# Altium footprint library ADCSFootprints.PcbLib: 63 footprints (part 1 of 4)
Each footprint in its own frame and in the unit in brackets; x right, y up, seen from the top. Pads: shape width x height; smd on the part's side, far side on the other; paste and mask are expansions set on the pad; w line width, h text height; cw(c..) or ccw(c..) is an arc to the next point about the centre after c.
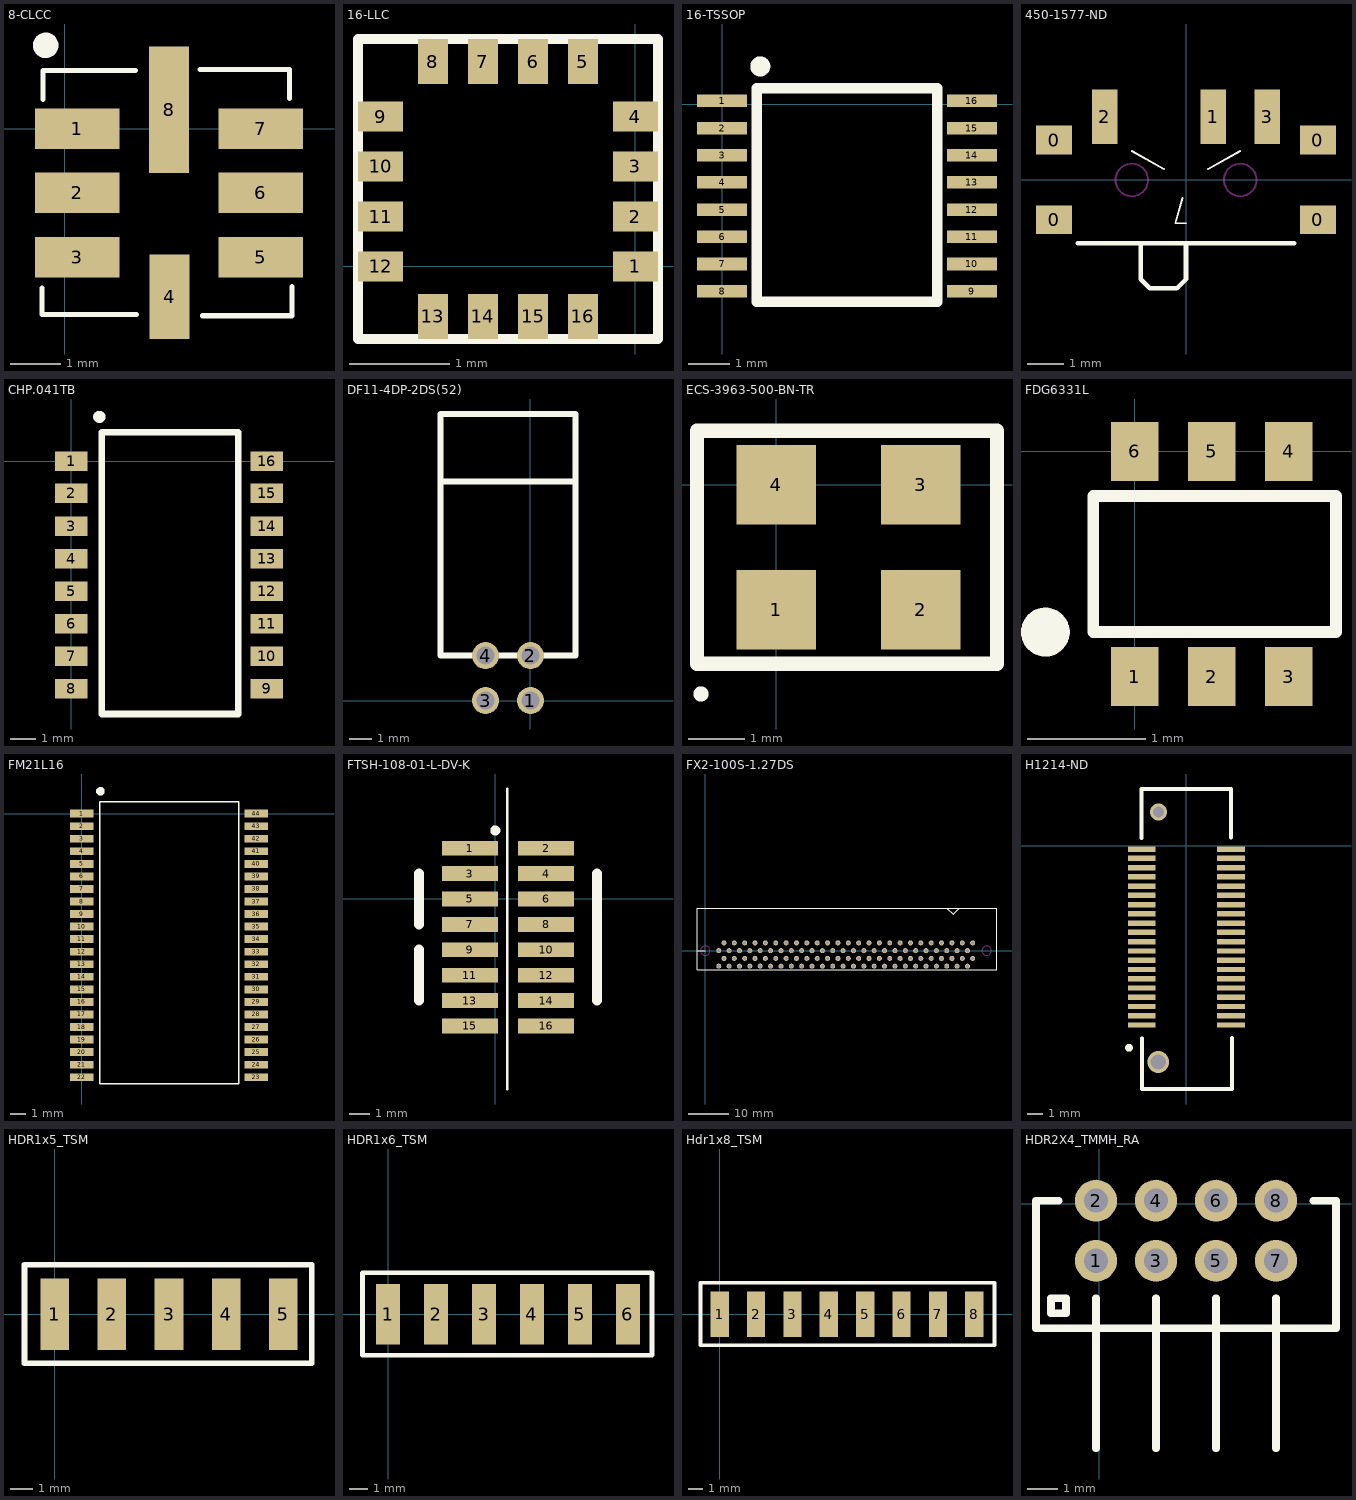
[diagram p0: the footprints below, top view; thin cyan lines are the x and y axes]

## 8-CLCC [mm]
pads (8):
  rrect0% 1.67x0.8 smd: 1(0.25,0) 2(0.25,-1.27) 3(0.25,-2.54) 5(3.88,-2.54) 6(3.88,-1.27) 7(3.88,0)
  rrect0% 0.8x1.67 smd: 4(2.075,-3.325)
  rrect0% 0.8x2.5 smd: 8(2.065,0.375)
Top Overlay:
  circle w0.254: c-0.375,1.65 r0.125
  lines w0.1: -0.45,-3.15 -0.45,-3.675 1.425,-3.675 ; -0.425,0.575 -0.425,1.15 1.4,1.15 ; 2.675,1.175 4.45,1.175 4.45,0.6 ; 2.725,-3.7 4.5,-3.7 4.5,-3.125

## 16-LLC [mm] "16-pin leadless chip carrier"
height 1.35
pads (16):
  rect 0.45x0.3 smd: 1(0,0) 2(0,0.5) 3(0,1) 4(0,1.5) 9(-2.55,1.5) 10(-2.55,1) 11(-2.55,0.5) 12(-2.55,0)
  rect 0.3x0.45 smd: 5(-0.525,2.05) 6(-1.025,2.05) 7(-1.525,2.05) 8(-2.025,2.05) 13(-2.025,-0.5) 14(-1.525,-0.5) 15(-1.025,-0.5) 16(-0.525,-0.5)
Top Overlay:
  lines w0.1: -2.775,-0.725 0.225,-0.725 0.225,2.275 -2.775,2.275 -2.775,-0.725
  text "." at -0.075,-0.425 h0.76

## 16-TSSOP [mm]
pads (16):
  rrect0% 1.2x0.3 smd: 1(0,0.075) 2(0,-0.575) 3(0,-1.225) 4(0,-1.875) 5(0,-2.525) 6(0,-3.175) 7(0,-3.825) 8(0,-4.475) 9(5.975,-4.475) 10(5.975,-3.825) 11(5.975,-3.175) 12(5.975,-2.525) 13(5.975,-1.875) 14(5.975,-1.225) 15(5.975,-0.575) 16(5.975,0.075)
Top Overlay:
  circle w0.254: c0.913,0.9 r0.112
  lines w0.254: 0.825,-4.725 0.825,0.38 5.15,0.38 5.15,-4.725 0.825,-4.725

## 450-1577-ND [mm] "SPDT Slide Switch"
height 1.4
pads (7):
  rect 1x0.8 smd: 0(-3.65,-1.1) 0(-3.65,1.1) 0(3.65,-1.1) 0(3.65,1.1)
  rect 0.7x1.5 smd: 1(0.75,1.75) 2(-2.25,1.75) 3(2.25,1.75)
Top Overlay:
  lines w0.05: -1.5,0.8 -0.6,0.3 ; -0.1,-0.5 -0.3,-1.2 0,-1.2 ; 0.6,0.3 1.5,0.8
  lines w0.125: -3,-1.75 3,-1.75 ; -1.25,-1.75 -1.25,-2.75 -1,-3 -0.25,-3 0,-2.75 0,-1.75
Keep-Out Layer:
  circle w0.05: c-1.5,0 r0.45
  circle w0.05: c1.5,0 r0.45

## CHP.041TB [mm]
pads (16):
  rrect0% 1.27x0.76 smd: 1(0,0) 2(0,-1.25) 3(0,-2.54) 4(0,-3.81) 5(0,-5.08) 6(0,-6.35) 7(0,-7.62) 8(0,-8.89) 9(7.62,-8.89) 10(7.62,-7.62) 11(7.62,-6.35) 12(7.62,-5.08) 13(7.62,-3.81) 14(7.62,-2.54) 15(7.62,-1.25) 16(7.62,0)
Top Overlay:
  circle w0.254: c1.088,1.74 r0.112
  lines w0.254: 1.175,-9.87 6.52,-9.87 6.52,1.13 1.175,1.13 1.175,-9.87

## DF11-4DP-2DS(52) [mm]
pads (4):
  round 1.2 hole 0.8: 1(0,0) 2(0,2) 3(-2,0) 4(-2,2)
Top Overlay:
  lines w0.254: -4,9.75 -4,2 2,2 2,9.75 ; -4,9.75 2,9.75 ; -4,9.75 -4,12.75 2,12.75 2,9.75
3D body: height 5.16, standoff -2.84, extent -4,-0.25 2,9.75

## ECS-3963-500-BN-TR [mm] "Crystal Oscillator"
height 1.3
pads (4):
  rect 1.4x1.4 smd: 1(0,-2.2) 2(2.54,-2.2) 3(2.54,0) 4(0,0)
Top Overlay:
  circle w0.152: c-1.327,-3.683 r0.057
  lines w0.254: -1.397,-3.15 -1.397,0.95 3.886,0.95 3.886,-3.15 -1.397,-3.15

## FDG6331L [mm]
pads (6):
  rrect0% 0.4x0.5 smd: 1(0,-1.9) 2(0.65,-1.9) 3(1.3,-1.9) 4(1.3,0) 5(0.65,0) 6(0,0)
Top Overlay:
  circle w0.254: c-0.754,-1.525 r0.079
  lines w0.1: -0.35,-1.525 -0.35,-0.375 1.7,-0.375 1.7,-1.525 -0.35,-1.525

## FM21L16 [mm]
pads (44):
  rrect0% 1.5x0.5 smd: 1(0,0) 2(0,-0.8) 3(0,-1.6) 4(0,-2.4) 5(0,-3.2) 6(0,-4) 7(0,-4.8) 8(0,-5.6) 9(0,-6.4) 10(0,-7.2) 11(0,-8) 12(0,-8.8) 13(0,-9.6) 14(0,-10.4) 15(0,-11.2) 16(0,-12) 17(0,-12.8) 18(0,-13.6) 19(0,-14.4) 20(0,-15.2) 21(0,-16) 22(0,-16.8) 23(11.1,-16.8) 24(11.1,-16) 25(11.1,-15.2) 26(11.1,-14.4) 27(11.1,-13.6) 28(11.1,-12.8) 29(11.1,-12) 30(11.1,-11.2) 31(11.1,-10.4) 32(11.1,-9.6) 33(11.1,-8.8) 34(11.1,-8) 35(11.1,-7.2) 36(11.1,-6.4) 37(11.1,-5.6) 38(11.1,-4.8) 39(11.1,-4) 40(11.1,-3.2) 41(11.1,-2.4) 42(11.1,-1.6) 43(11.1,-0.8) 44(11.1,0)
Top Overlay:
  circle w0.254: c1.179,1.425 r0.146
  lines w0.1: 10,0.725 10,-17.225 1.125,-17.225 1.125,0.75 10,0.75

## FTSH-108-01-L-DV-K [mm] "8X2 50 mil pitch SMT header"
pads (16):
  rect 2.8x0.74 smd: 1(-1.27,2.54) 2(2.54,2.54) 3(-1.27,1.27) 4(2.54,1.27) 5(-1.27,0) 6(2.54,0) 7(-1.27,-1.27) 8(2.54,-1.27) 9(-1.27,-2.54) 10(2.54,-2.54) 11(-1.27,-3.81) 12(2.54,-3.81) 13(-1.27,-5.08) 14(2.54,-5.08) 15(-1.27,-6.35) 16(2.54,-6.35)
Top Overlay:
  circle w0.25: c0,3.427 r0.125
  lines w0.125: 0.6,-9.5 0.6,-2 0.6,5.5
  lines w0.508: -3.81,-5.08 -3.81,-2.54 ; -3.81,-1.27 -3.81,1.27 ; 5.08,-5.08 5.08,1.27

## FX2-100S-1.27DS [mm] "11-pin s3sb expansion connecter"
height 7.5
pads (100):
  round 1.22 hole 0.8: A1(65.532,-1.905) A2(64.262,-3.81) A3(62.992,-1.905) A4(61.722,-3.81) A5(60.452,-1.905) A6(59.182,-3.81) A7(57.912,-1.905) A8(56.642,-3.81) A9(55.372,-1.905) A10(54.102,-3.81) A11(52.832,-1.905) A12(51.562,-3.81) A13(50.292,-1.905) A14(49.022,-3.81) A15(47.752,-1.905) A16(46.482,-3.81) A17(45.212,-1.905) A18(43.942,-3.81) A19(42.672,-1.905) A20(41.402,-3.81) A21(40.132,-1.905) A22(38.862,-3.81) A23(37.592,-1.905) A24(36.322,-3.81) A25(35.052,-1.905) A26(33.782,-3.81) A27(32.512,-1.905) A28(31.242,-3.81) A29(29.972,-1.905) A30(28.702,-3.81) A31(27.432,-1.905) A32(26.162,-3.81) A33(24.892,-1.905) A34(23.622,-3.81) A35(22.352,-1.905) A36(21.082,-3.81) A37(19.812,-1.905) A38(18.542,-3.81) A39(17.272,-1.905) A40(16.002,-3.81) A41(14.732,-1.905) A42(13.462,-3.81) A43(12.192,-1.905) A44(10.922,-3.81) A45(9.652,-1.905) A46(8.382,-3.81) A47(7.112,-1.905) A48(5.842,-3.81) A49(4.572,-1.905) A50(3.302,-3.81) B1(65.532,1.905) B2(64.262,0) B3(62.992,1.905) B4(61.722,0) B5(60.452,1.905) B6(59.182,0) B7(57.912,1.905) B8(56.642,0) B9(55.372,1.905) B10(54.102,0) B11(52.832,1.905) B12(51.562,0) B13(50.292,1.905) B14(49.022,0) B15(47.752,1.905) B16(46.482,0) B17(45.212,1.905) B18(43.942,0) B19(42.672,1.905) B20(41.402,0) B21(40.132,1.905) B22(38.862,0) B23(37.592,1.905) B24(36.322,0) B25(35.052,1.905) B26(33.782,0) B27(32.512,1.905) B28(31.242,0) B29(29.972,1.905) B30(28.702,0) B31(27.432,1.905) B32(26.162,0) B33(24.892,1.905) B34(23.622,0) B35(22.352,1.905) B36(21.082,0) B37(19.812,1.905) B38(18.542,0) B39(17.272,1.905) B40(16.002,0) B41(14.732,1.905) B42(13.462,0) B43(12.192,1.905) B44(10.922,0) B45(9.652,1.905) B46(8.382,0) B47(7.112,1.905) B48(5.842,0) B49(4.572,1.905) B50(3.302,0)
Top Overlay:
  lines w0.127: -2.032,0 0,0 ; 59.213,10.414 60.737,8.89 62.261,10.414 ; -2.032,-4.699 -2.032,10.414 3.302,10.414 71.501,10.414 71.501,-4.699 -2.032,-4.699
Keep-Out Layer:
  circle w0.127: c0,0 r1.15
  circle w0.127: c68.954,0 r1.15
3D body: height 5.6, standoff 0, extent -2.032,-4.699 71.501,2.794
3D body: height 7.5, standoff 0, extent -2.032,2.794 71.501,10.414

## H1214-ND [mm] "CONN RECEPT 40POS .6MM GOLD SMD"
height 2.26
pads (40):
  rect 1.8x0.35 smd: 1(-2.903,-11.625) 2(2.897,-11.625) 3(-2.903,-11.025) 4(2.897,-11.025) 5(-2.903,-10.425) 6(2.897,-10.425) 7(-2.903,-9.825) 8(2.897,-9.825) 9(-2.903,-9.225) 10(2.897,-9.225) 11(-2.903,-8.625) 12(2.897,-8.625) 13(-2.903,-8.025) 14(2.897,-8.025) 15(-2.903,-7.425) 16(2.897,-7.425) 17(-2.903,-6.825) 18(2.897,-6.825) 19(-2.903,-6.225) 20(2.897,-6.225) 21(-2.902,-5.625) 22(2.897,-5.625) 23(-2.902,-5.025) 24(2.897,-5.025) 25(-2.902,-4.425) 26(2.897,-4.425) 27(-2.902,-3.825) 28(2.897,-3.825) 29(-2.902,-3.225) 30(2.897,-3.225) 31(-2.902,-2.625) 32(2.897,-2.625) 33(-2.902,-2.025) 34(2.897,-2.025) 35(-2.902,-1.425) 36(2.897,-1.425) 37(-2.902,-0.825) 38(2.897,-0.825) 39(-2.902,-0.225) 40(2.897,-0.225)
via -1.813,-14.025 diameter 1.4 hole 1
via -1.802,2.175 diameter 1.1 hole 0.7
Top Overlay:
  circle w0.25: c-3.725,-13.1 r0.125
  lines w0.254: -2.9,0.5 -2.9,3.675 2.9,3.675 2.9,0.525 ; -2.875,-12.5 -2.875,-15.775 2.95,-15.775 2.95,-12.45
3D body: height 3.81, standoff 0, extent -2.886,-15.8 2.956,3.775

## HDR1x5_TSM [mm] "1x5 surface mount header, 100 mil pitch"
pads (5):
  rect 1.27x3.18 smd: 1(0,0) 2(2.54,0) 3(5.08,0) 4(7.62,0) 5(10.16,0)
Top Overlay:
  lines w0.254: -1.35,-2.175 11.43,-2.175 11.43,2.2 -1.35,2.2 -1.35,-2.175

## HDR1x6_TSM [mm] "1x6 surface mount header, 100 mil pitch"
pads (6):
  rect 1.27x3.18 smd: 1(0,0) 2(2.54,0) 3(5.08,0) 4(7.62,0) 5(10.16,0) 6(12.7,0)
Top Overlay:
  lines w0.254: -1.35,-2.175 -1.35,2.2 13.97,2.2 13.97,-2.175 -1.35,-2.175

## Hdr1x8_TSM [mm]
pads (8):
  rect 1.27x3.18 smd: 1(0,0) 2(2.54,0) 3(5.08,0) 4(7.62,0) 5(10.16,0) 6(12.7,0) 7(15.24,0) 8(17.78,0)
Top Overlay:
  lines w0.254: -1.375,-2.175 19.15,-2.175 ; -1.35,-2.125 -1.35,2.2 19.2,2.2 19.2,-2.15

## HDR2X4_TMMH_RA [mm]
pads (8):
  round 1.4 hole 0.8: 1(-0.1,-1.9) 2(-0.1,0.1) 3(1.9,-1.9) 4(1.9,0.1) 5(3.9,-1.9) 6(3.9,0.1) 7(5.9,-1.9) 8(5.9,0.1)
Top Overlay:
  lines w0.254: -1.35,0.1 -2.1,0.1 -2.1,-4.15 7.9,-4.15 7.9,0.1 7.15,0.1 ; -0.1,-8.15 -0.1,-3.15 ; 1.9,-8.15 1.9,-3.15 ; 3.9,-8.15 3.9,-3.15 ; 5.9,-8.15 5.9,-3.15 ; -1.6,-3.65 -1.1,-3.65 -1.1,-3.15 -1.6,-3.15 -1.6,-3.65